# EAGLE library part 6120XX22921_61203422921 (library WR-BHD)
WR-BHD 2.54 mm Male Characteristics Working Voltage: 250 V UL approval: E323964 UL94-V0 Applications Industrial Production lines Details see: www.we-online.com/components/products/WTB_WR_BHD_BOX_HEADER_2_54MM_MALE_PCB Updated by Ella 2026-09-16 2026 (C) Würth Elektronik
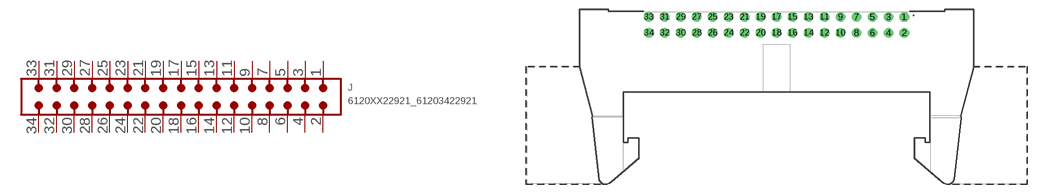
[diagram p117: symbol with the pads of 61203422921; footprint 61203422921]

Designator prefix J

## 6120XX22921_61203422921 (CATEGORY: Connectors; DATASHEET: https://www.we-online.com/redexpert/spec/61203422921?ae; GENDER: Male; LENGTH: 62.68 mm; MANUFACTURER: Würth Elektronik; MOUNT: THT; MPN: 61203422921; OPERATING_TEMPERATURE: -40 °C up to +105 °C; PACKAGING: Tray; PINS: 34; PITCH: 2.54mm; RATED_CURRENT: 3 A; SIZE: THT Angled; TYPE: Angled; VALUE: 61203422921; VERSION: With locking lever)  [61203422921]
1  1  pas
2  2  pas
3  3  pas
4  4  pas
5  5  pas
6  6  pas
7  7  pas
8  8  pas
9  9  pas
10  10  pas
11  11  pas
12  12  pas
13  13  pas
14  14  pas
15  15  pas
16  16  pas
17  17  pas
18  18  pas
19  19  pas
20  20  pas
21  21  pas
22  22  pas
23  23  pas
24  24  pas
25  25  pas
26  26  pas
27  27  pas
28  28  pas
29  29  pas
30  30  pas
31  31  pas
32  32  pas
33  33  pas
34  34  pas

## Footprint 61203422921 (pad centres in mm)
WR-BHD Wire-to-Board Connectors, 2.54mm, Male, THT Angled, 34pins
drill 1.02: 1 20.32,7.36; 2 20.32,4.82; 3 17.78,7.36; 4 17.78,4.82; 5 15.24,7.36; 6 15.24,4.82; 7 12.7,7.36; 8 12.7,4.82; 9 10.16,7.36; 10 10.16,4.82; 11 7.62,7.36; 12 7.62,4.82; 13 5.08,7.36; 14 5.08,4.82; 15 2.54,7.36; 16 2.54,4.82; 17 0,7.36; 18 0,4.82; 19 -2.54,7.36; 20 -2.54,4.82; 21 -5.08,7.36; 22 -5.08,4.82; 23 -7.62,7.36; 24 -7.62,4.82; 25 -10.16,7.36; 26 -10.16,4.82; 27 -12.7,7.36; 28 -12.7,4.82; 29 -15.24,7.36; 30 -15.24,4.82; 31 -17.78,7.36; 32 -17.78,4.82; 33 -20.32,7.36; 34 -20.32,4.82